# Altium footprint library iBox_Telma.PcbLib: 41 footprints (part 2 of 3)
Each footprint in its own frame and in the unit in brackets; x right, y up, seen from the top. Pads: shape width x height; smd on the part's side, far side on the other; paste and mask are expansions set on the pad; w line width, h text height; cw(c..) or ccw(c..) is an arc to the next point about the centre after c.
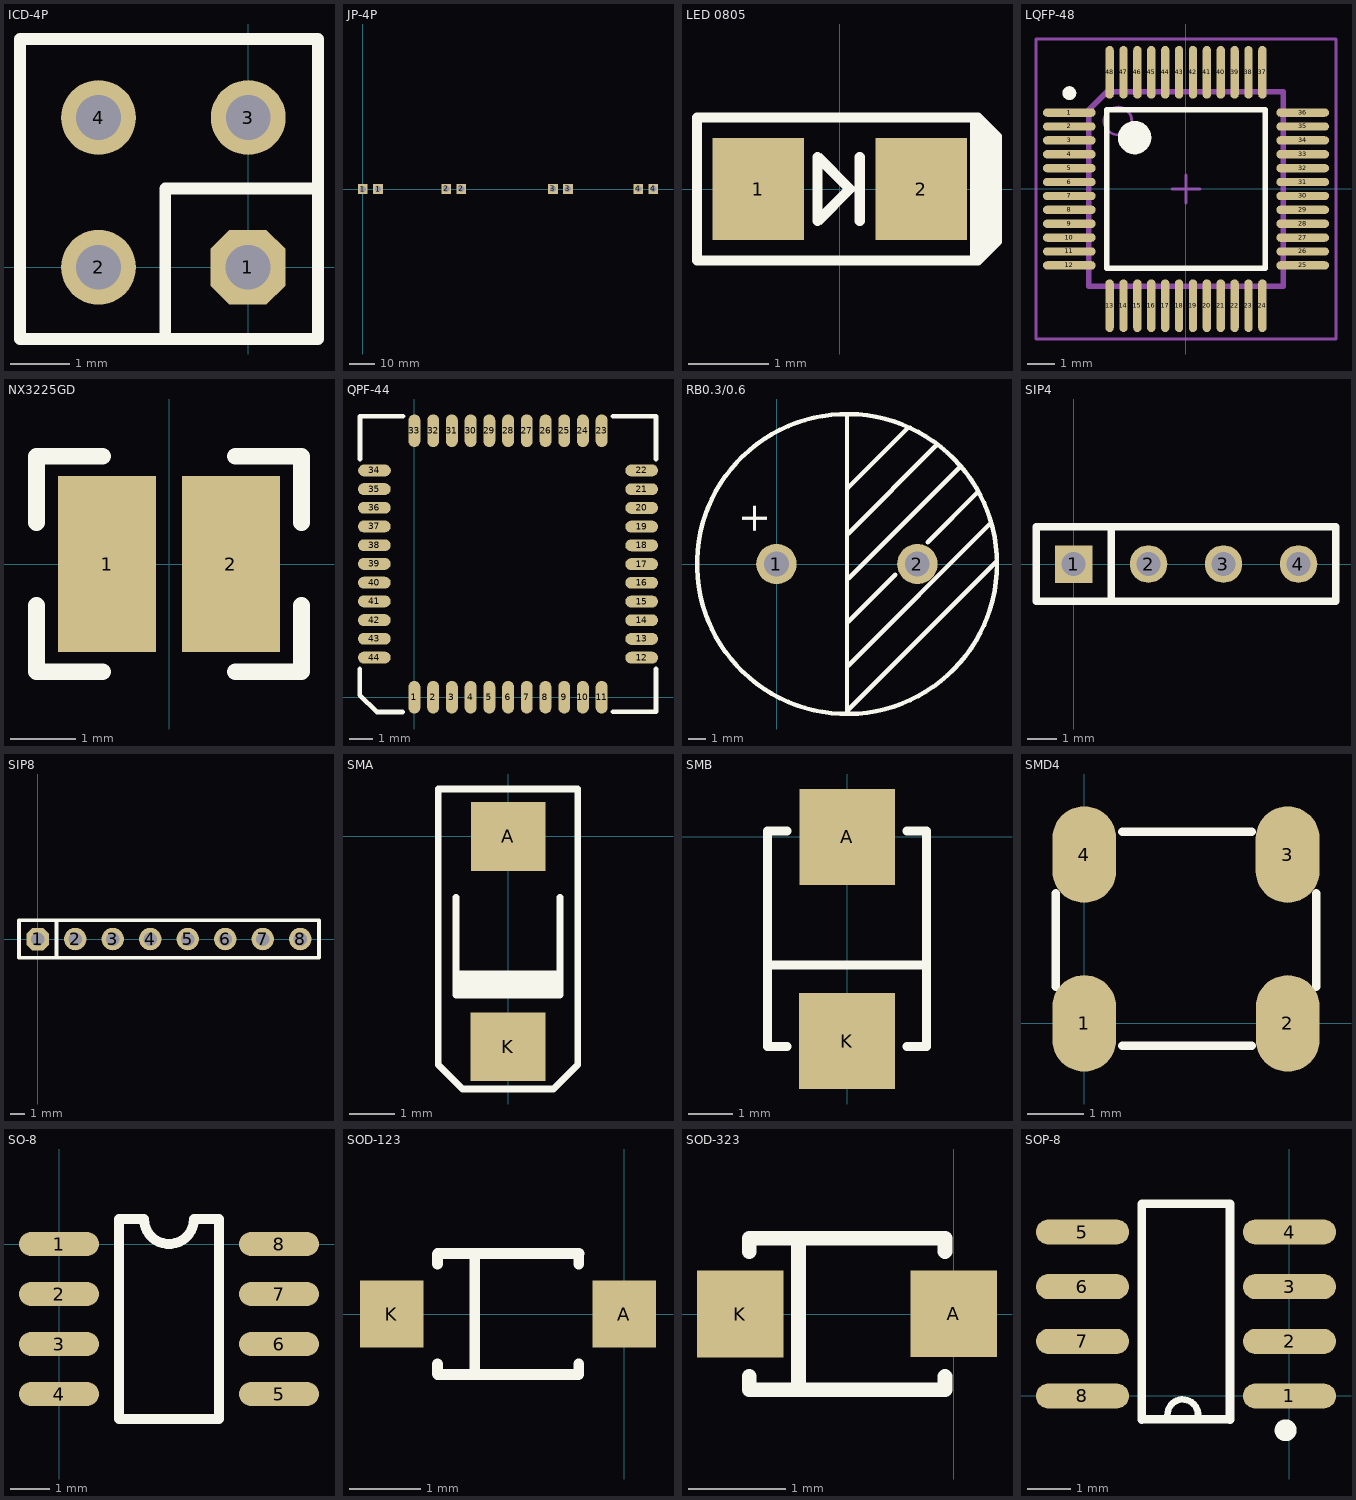
[diagram p1: the footprints below, top view; thin cyan lines are the x and y axes]

## ICD-4P [mil]
pads (4):
  oct 50x50 hole 30: 1(-0.21,0)
  round 50 hole 30: 2(-100,0) 3(0,100) 4(-100,100)
Top Overlay:
  lines w8: -55.42,-45.83 -55.42,52.5 45.83,52.5 ; 46.67,152.08 46.67,-47.92 -152.5,-47.92 -152.5,152.5 46.67,152.5

## JP-4P [mm]
pads (8):
  rect 3.81x3.81 hole 2.54: 1(-0.011,0.011) 1(6,0.021) 2(32.958,0.042) 2(38.969,0.042) 3(75.224,0.042) 3(81.15,0.042) 4(108.942,0.042) 4(114.869,0.042)
3D body "长铜排.STEP": height 9, standoff -2, extent -3.111,-12.238 131.889,0.762

## LED 0805 [mil]
pads (2):
  rect 45x50 smd: 1(-40,0) 2(40,0)
Top Overlay:
  region: 66.93,-25.59 63.98,-25.59 63.98,-35.43 66.93,-35.43
  region: 69.88,-23.62 64.96,-23.62 64.96,-33.46 69.88,-33.46
  region: 72.83,-23.62 67.91,-23.62 67.91,-30.51 72.83,-30.51
  region: 74.8,-23.62 70.87,-23.62 70.87,-27.56 74.8,-27.56
  region: 71.85,32.48 63.98,32.48 63.98,25.59 71.85,25.59
  region: 68.9,35.43 63.98,35.43 63.98,32.48 68.9,32.48
  region: 74.8,28.54 68.9,28.54 68.9,23.62 74.8,23.62
  region: 77.17,25.59 63.98,25.59 63.98,-25.59 77.17,-25.59
  lines w5: 9.84,-15.75 9.84,15.75 ; -70,-35 67.76,-35 77.17,-25.59 77.17,25.59 67.76,35 -70,35 -70,-35 ; -10.83,-15.75 4.92,0 -10.83,15.75 -10.83,-15.75
3D body "ALSRobot-LED0805(R).STEP": height 43.31, standoff 0, extent -39.76,-24.6 39.77,24.61

## LQFP-48 [mm] "TSQFP, 48-Leads, Body 9,0x9,0mm (max), Pitch 0,50mm, IPC Medium Density"
height 1.2
pads (48):
  oval 1.9x0.3 smd: 1(-4.2,2.75) 2(-4.2,2.25) 3(-4.2,1.75) 4(-4.2,1.25) 5(-4.2,0.75) 6(-4.2,0.25) 7(-4.2,-0.25) 8(-4.2,-0.75) 9(-4.2,-1.25) 10(-4.2,-1.75) 11(-4.2,-2.25) 12(-4.2,-2.75) 25(4.2,-2.75) 26(4.2,-2.25) 27(4.2,-1.75) 28(4.2,-1.25) 29(4.2,-0.75) 30(4.2,-0.25) 31(4.2,0.25) 32(4.2,0.75) 33(4.2,1.25) 34(4.2,1.75) 35(4.2,2.25) 36(4.2,2.75)
  oval 0.3x1.9 smd: 13(-2.75,-4.2) 14(-2.25,-4.2) 15(-1.75,-4.2) 16(-1.25,-4.2) 17(-0.75,-4.2) 18(-0.25,-4.2) 19(0.25,-4.2) 20(0.75,-4.2) 21(1.25,-4.2) 22(1.75,-4.2) 23(2.25,-4.2) 24(2.75,-4.2) 37(2.75,4.2) 38(2.25,4.2) 39(1.75,4.2) 40(1.25,4.2) 41(0.75,4.2) 42(0.25,4.2) 43(-0.25,4.2) 44(-0.75,4.2) 45(-1.25,4.2) 46(-1.75,4.2) 47(-2.25,4.2) 48(-2.75,4.2)
Top Overlay:
  circle w0.25: c-4.2,3.45 r0.125
  circle w0.6: c-1.85,1.85 r0.3
  lines w0.2: -2.85,-2.85 -2.85,2.85 2.85,2.85 2.85,-2.85 -2.85,-2.85
Mechanical 13:
  circle w0.1: c-2.45,2.45 r0.5
  lines w0.2: -3.5,-3.5 3.5,-3.5 3.5,3.5 -2.85,3.5 -3.5,2.85 -3.5,-3.5
Mechanical 15:
  lines w0.1: -0.5,0 0.5,0 ; 0,-0.5 0,0.5 ; -5.4,-5.4 -5.4,5.4 5.4,5.4 5.4,-5.4 -5.4,-5.4
3D body "LQFP48.step": height 1.5, standoff 0, extent -4.5,-4.5 4.5,4.5

## NX3225GD [mm]
pads (2):
  rect 1.5x2.7 smd: 1(-0.95,0) 2(0.95,0)
Top Overlay:
  lines w0.254: -2.032,-0.635 -2.032,-1.651 -1.016,-1.651 ; -2.032,0.635 -2.032,1.651 -1.016,1.651 ; 1.016,-1.651 2.032,-1.651 2.032,-0.635 ; 1.016,1.651 2.032,1.651 2.032,0.635
3D body "User Library-ASE_series _ABRACON.STEP": height 1.2, standoff 0, extent -1.6,-1.25 1.6,1.25

## QPF-44 [mil]
pads (44):
  oval 20x55 smd: 1(0.01,-0.21) 2(31.5,0) 3(62.99,0) 4(94.49,0) 5(125.98,0) 6(157.48,0) 7(188.98,0) 8(220.47,0) 9(251.97,0) 10(283.46,0) 11(314.96,0) 23(314.96,448.33) 24(283.5,448.33) 25(252.01,448.33) 26(220.51,448.33) 27(189.02,448.33) 28(157.52,448.33) 29(126.02,448.33) 30(94.53,448.33) 31(63.03,448.33) 32(31.54,448.33) 33(0.04,448.33)
  oval 55x20 smd: 12(382.29,66.46) 13(382.29,97.95) 14(382.29,129.45) 15(382.29,160.95) 16(382.29,192.44) 17(382.29,223.94) 18(382.29,255.44) 19(382.29,286.93) 20(382.29,318.43) 21(382.29,349.92) 22(382.29,381.42) 34(-67.29,381.42) 35(-67.5,350.17) 36(-67.5,318.68) 37(-67.5,287.18) 38(-67.5,255.68) 39(-67.5,224.19) 40(-67.5,192.69) 41(-67.5,161.19) 42(-67.5,129.7) 43(-67.5,98.2) 44(-67.5,66.71)
Top Overlay:
  lines w8: -91.88,47.5 -91.88,3.54 -63.54,-24.79 -19.79,-24.79 ; -91.46,400.62 -91.46,472.71 -19.17,472.71 ; 334.17,-24.38 406.46,-24.38 406.46,47.71 ; 334.17,472.71 406.46,472.71 406.46,400.62

## RB0.3/0.6 [mil]
pads (2):
  round 90 hole 55: 1(-0.42,0) 2(313.39,0)
Top Overlay:
  circle w10: c156.67,0 r334
  lines w10: 156.67,-332.5 156.67,0 156.67,331.67 ; 157.08,-327.08 490,5.83 ; 157.92,168.75 291.46,302.29 ; 159.17,-226.67 475.83,90 ; 159.17,-128.33 263.75,-23.75 ; 159.17,67.71 356.67,265.21 ; 160.42,-31.67 408.96,216.88 ; 336.25,48.75 448.75,161.25
  text "+" at -20.62,63.54 h65
3D body "User Library-CapAluRadial_D160H315.STEP": height 1318.9, standoff -118.11, extent -164.8,-324.79 484.8,324.79

## SIP4 [mil]
pads (4):
  rect 50x50 hole 32: 1(0,0)
  round 50 hole 32: 2(100,0) 3(200,0) 4(300,0)
Top Overlay:
  lines w10: 50,-50 50,50 ; -50,-50 350,-50 350,50 -50,50 -50,-50

## SIP8 [mil]
pads (8):
  oct 60x60 hole 36: 1(0,0)
  round 60 hole 36: 2(100,0) 3(200,0) 4(300,0) 5(400,0) 6(500,0) 7(600,0) 8(700,0)
Top Overlay:
  lines w10: 50,-50 50,50 ; -50,-50 -50,50 750,50 750,-50 -50,-50

## SMA [mil]
pads (2):
  rect 65x60 smd: A(-0.32,-0.11) K(-0.42,-183.5)
Top Overlay:
  rectangle: -46.46,-138.75 45.42,-121.04
  lines w6: -45.83,-53.12 -45.83,-138.54 45,-138.54 45,-53.12 ; -44.58,-120.21 42.71,-120.21 ; 39.17,-220.42 -40,-220.42 -61.27,-199.17 -61.27,41.25 60.42,41.25 ; 39.18,-220.42 60.43,-199.17 60.43,41.25
3D body "User Library-DO-214AC SMA.STEP": height 94.59, standoff 0, extent -51.18,-187.36 51.18,17.36

## SMB [mil]
pads (2):
  rect 85x85 smd: A(0.2,-0.08) K(0,-181.3)
Top Overlay:
  lines w8: -70.42,-113.75 70.42,-113.75 ; -53.33,-186.25 -70.42,-186.25 -70.42,5 -53.33,5 ; 53.33,-186.25 70.42,-186.25 70.42,5 53.33,5
3D body "User Library-DO-214AA SMB.STEP": height 94.59, standoff 3.94, extent -70.87,-196.3 70.87,16.29

## SMD4 [mil]
pads (4):
  oval 45x68 smd: 1(-0.02,0.02) 2(143.4,0) 3(143.33,119) 4(0,119)
Top Overlay:
  lines w6: -20,25.83 -20,91.67 ; 26.67,-15.83 117.92,-15.83 ; 26.67,135 117.92,135 ; 163.33,25.83 163.33,91.67
3D body "SMD4_inductor.stp": height 70.87, standoff 0, extent -16.61,-18.74 156.62,138.74

## SO-8 [mil]
pads (8):
  oval 80x24 smd: 1(0,0) 2(0,-50) 3(0,-100) 4(0,-150) 5(220,-150) 6(220,-100) 7(220,-50) 8(220,0)
Top Overlay:
  lines w10: 60,-175 60,25 85,25 ccw(c110,25) 135,25 160,25 160,-175 60,-175
3D body "User Library-SO8-HCPL.STEP": height 131.12, standoff -15.9, extent -13.22,-175 223.22,21.85

## SOD-123 [mil]
pads (2):
  rect 35x37 smd: A(0.01,-0.09) K(-128.4,0)
Top Overlay:
  lines w6: -103.12,-33.12 -103.12,-27.5 ; -103.12,27.5 -103.12,33.12 ; -102.92,-33.33 -25.42,-33.33 ; -102.92,33.33 -25,33.33 ; -82.5,-31.67 -82.5,32.5 ; -25.21,-33.12 -25.21,-27.5 ; -25.21,27.5 -25.21,33.12
3D body "CircuitWorks-SOD123.STEP": height 50, standoff 0, extent -137.83,-31.5 7.84,31.5

## SOD-323 [mil]
pads (2):
  rect 35x35 smd: A(-0.03,0.07) K(-86.31,0)
Top Overlay:
  lines w6: -82.71,-25.21 -82.71,-30.62 -3.54,-30.62 -3.54,-25.21 ; -82.71,25.21 -82.71,30.62 -3.54,30.62 -3.54,25.21 ; -62.71,-30.21 -62.71,29.17
3D body "User Library-SOD-323.STEP": height 43.41, standoff 0, extent -96.18,-26.57 6.19,26.58

## SOP-8 [mil]
pads (8):
  oval 85x23 smd: 1(0.17,0) 2(0.21,50) 3(0.21,100) 4(0.21,150) 5(-189.18,150) 6(-189.17,100) 7(-189.17,50) 8(-189.17,0)
Top Overlay:
  circle w10: c-3.33,-31.35 r5
  lines w6: -111.15,-20.11 cw(c-97.47,-17.13) -84.04,-21.09
  lines w8: -135,-21.46 -135,175.83 -54.17,175.83 -54.17,-21.46 ; -135,-21.25 -54.17,-21.25
3D body "User Library-HSOP8-1.STEP": height 68.31, standoff -0.59, extent -217.05,-25 27.05,171.85